# Altium schematic symbol library 2485396-2.SchLib: 1 symbol
Pins are listed as number, name and electrical type; pins without a type are passive.

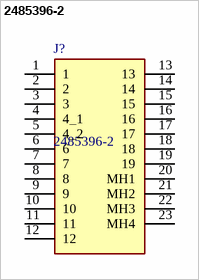
[diagram p0: symbol 2485396-2]

## 2485396-2
designator J?
HDMI Connector Receptacle, Standard Profile, 1 Port, Top, Right Angle, Surface Mount, Cable-to-Board, 19 Position, .5 mm [.019 in] Centerline; Manufacturer_Name: TE Connectivity; Geometry.Height: 6.33mm; Mouser Part Number: *; Mouser Price/Stock: *; Manufacturer_Part_Number: 2485396-2; Datasheet Link: https://www.te.com/en/product-2485396-2.html
footprint 24853962
pins: 1, 2, 3, 4 4_1, 5 4_2, 6, 7, 8, 9, 10, 11, 12, 13, 14, 15, 16, 17, 18, 19, 20 MH1, 21 MH2, 22 MH3, 23 MH4